# Altium schematic symbol library ESP.SchLib: 4 symbols
Pins are listed as number, name and electrical type; pins without a type are passive.

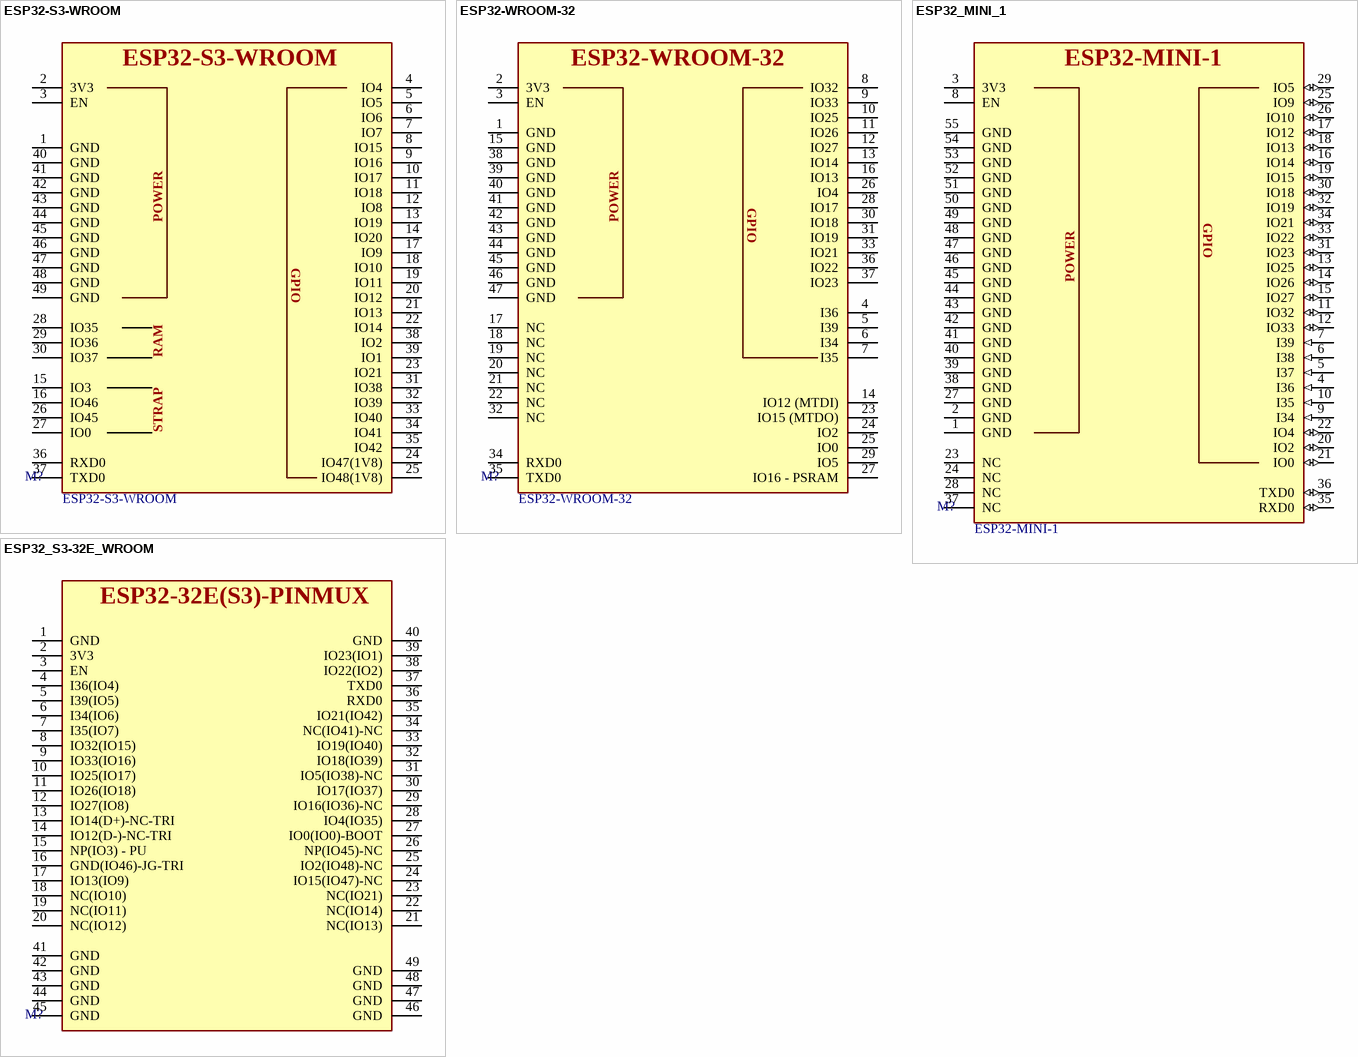
[diagram p0: symbols ESP32-S3-WROOM to ESP32_S3-32E_WROOM]

## ESP32-S3-WROOM
designator M?  value ESP32-S3-WROOM
ESP32-S3-WROOM Module; Manufacturer 1: Espressif Systems; Manufacturer Part Number 1: *; Package: *
footprint ESP32-S3-WROOM-1U (Bluetooth, WiFi 802.11b/g/n, Bluetooth v5.0 Transceiver Module 2.4GHz Antenna Not Included, U.FL Surface Mount)
footprint ESP32-S3-WROOM-1
pins: 1 GND (power), 2 3V3, 3 EN, 4 IO4, 5 IO5, 6 IO6, 7 IO7, 8 IO15, 9 IO16, 10 IO17, 11 IO18, 12 IO8, 13 IO19, 14 IO20, 15 IO3, 16 IO46, 17 IO9, 18 IO10, 19 IO11, 20 IO12, 21 IO13, 22 IO14, 23 IO21, 24 IO47(1V8), 25 IO48(1V8), 26 IO45, 27 IO0, 28 IO35, 29 IO36, 30 IO37, 31 IO38, 32 IO39, 33 IO40, 34 IO41, 35 IO42, 36 RXD0, 37 TXD0, 38 IO2, 39 IO1, 40 GND (power), 41 GND (power), 42 GND (power), 43 GND (power), 44 GND (power), 45 GND (power), 46 GND (power), 47 GND (power), 48 GND (power), 49 GND (power)
text: POWER; GPIO; RAM; STRAP

## ESP32-WROOM-32
designator M?  value ESP32-WROOM-32
ESP32-WROOM-32 Module; Manufacturer 1: Espressif Systems; Manufacturer Part Number 1: *; Package: *
footprint ESP32-WROOM-32E
footprint ESP32-WROOM-32UE
pins: 1 GND, 2 3V3, 3 EN, 4 I36, 5 I39, 6 I34, 7 I35, 8 IO32, 9 IO33, 10 IO25, 11 IO26, 12 IO27, 13 IO14, 14 IO12 (MTDI), 15 GND, 16 IO13, 17 NC, 18 NC, 19 NC, 20 NC, 21 NC, 22 NC, 23 IO15 (MTDO), 24 IO2, 25 IO0, 26 IO4, 27 IO16 - PSRAM, 28 IO17, 29 IO5, 30 IO18, 31 IO19, 32 NC, 33 IO21, 34 RXD0, 35 TXD0, 36 IO22, 37 IO23, 38 GND, 39 GND, 40 GND, 41 GND, 42 GND, 43 GND, 44 GND, 45 GND, 46 GND, 47 GND
text: GPIO; POWER

## ESP32_MINI_1
designator M?, comment value ESP32-MINI-1  (hidden comment: ERP_140-3)
ESP32_C3_MINI_1 Module; Manufacturer Part Number 1: ESP32-MINI-1-N4; Manufacturer 1: Espressif Systems; ERP: *; Supplier Part Number 1: *; Supplier 1: *; Package: *
footprint ESP32_MINI_1
footprint ESP32_MINI_1U
pins: 1 GND, 2 GND, 3 3V3 (power), 4 I36 (in), 5 I37 (in), 6 I38 (in), 7 I39 (in), 8 EN, 9 I34 (in), 10 I35 (in), 11 IO32 (io), 12 IO33 (io), 13 IO25 (io), 14 IO26 (io), 15 IO27 (io), 16 IO14 (io), 17 IO12 (io), 18 IO13 (io), 19 IO15 (io), 20 IO2 (io), 21 IO0 (io), 22 IO4 (io), 23 NC, 24 NC, 25 IO9 (io), 26 IO10 (io), 27 GND, 28 NC, 29 IO5 (io), 30 IO18 (io), 31 IO23 (io), 32 IO19 (io), 33 IO22 (io), 34 IO21 (io), 35 RXD0 (io), 36 TXD0 (io), 37 NC, 38 GND, 39 GND, 40 GND, 41 GND, 42 GND, 43 GND, 44 GND, 45 GND, 46 GND, 47 GND, 48 GND, 49 GND, 50 GND, 51 GND, 52 GND, 53 GND, 54 GND, 55 GND
text: GPIO; POWER

## ESP32_S3-32E_WROOM
designator M?
ESP32-S3-WROOM 1/1U Module; Manufacturer 1: Espressif Systems; Manufacturer Part Number 1: *; Package: *
footprint ESP32_S3-32E_WROOM
pins: 1 GND (power), 2 3V3, 3 EN, 4 I36(IO4), 5 I39(IO5), 6 I34(IO6), 7 I35(IO7), 8 IO32(IO15), 9 IO33(IO16), 10 IO25(IO17), 11 IO26(IO18), 12 IO27(IO8), 13 IO14(D+)-NC-TRI, 14 IO12(D-)-NC-TRI, 15 NP(IO3) - PU, 16 GND(IO46)-JG-TRI, 17 IO13(IO9), 18 NC(IO10), 19 NC(IO11), 20 NC(IO12), 21 NC(IO13), 22 NC(IO14), 23 NC(IO21), 24 IO15(IO47)-NC, 25 IO2(IO48)-NC, 26 NP(IO45)-NC, 27 IO0(IO0)-BOOT, 28 IO4(IO35), 29 IO16(IO36)-NC, 30 IO17(IO37), 31 IO5(IO38)-NC, 32 IO18(IO39), 33 IO19(IO40), 34 NC(IO41)-NC, 35 IO21(IO42), 36 RXD0, 37 TXD0, 38 IO22(IO2), 39 IO23(IO1), 40 GND, 41 GND (power), 42 GND (power), 43 GND (power), 44 GND (power), 45 GND (power), 46 GND (power), 47 GND (power), 48 GND (power), 49 GND (power)
text: ESP32-32E(S3)-PINMUX